# EAGLE library part EA-MS5611 (library SDSURocket-BreakoutBoards)
Embedded Adventures MS5611 Breakout Air Pressure Sensor (Barometer) Layout for the Embedded Adventures MS5611 (MOD-1009v3) Breakout board. The MS5611 air pressure sensor that returns a 24 bit result allowing you to measure the difference in air pressure of 10cm change in altitude. Easily accessable via I2C, and with the new v3 board, SPI protocol. Product ID: MOD-1009 <http://www.embeddedadventures.com/barometric_pressure_sensor_module_mod-1009.html>
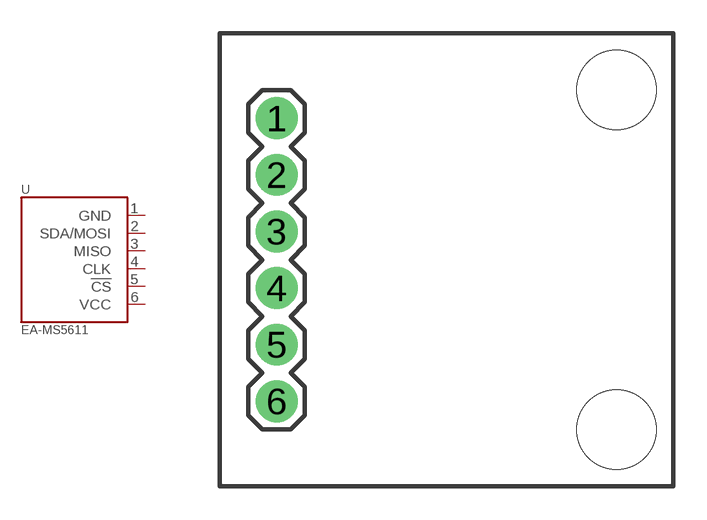
[diagram p6: symbol with the pads of EA-MS5611; footprint EA-MS5611]

Designator prefix -

## EA-MS5611-BREAKOUT  [EA-MS5611]
1  GND  pwr
2  SDA/MOSI
3  MISO  out
4  CLK  in
5  !CS  in
6  VCC  pwr

## Footprint EA-MS5611 (pad centres in mm)
Embedded Adventures MS5611 Breakout Air Pressure Sensor (Barometer) Layout for the Embedded Adventures MS5611 (MOD-1009v3) Breakout board. The MS5611 air pressure sensor that returns a 24 bit result allowing you to measure the difference in air pressure of 10cm change in altitude. Easily accessable via I2C, and with the new v3 board, SPI protocol. Product ID: MOD-1009 <http://www.embeddedadventures.com/barometric_pressure_sensor_module_mod-1009.html>
drill 1.016 pad 1.88: 1 -7.62,6.35; 2 -7.62,3.81; 3 -7.62,1.27; 4 -7.62,-1.27; 5 -7.62,-3.81; 6 -7.62,-6.35
hole 3.556 at 7.62,-7.62
hole 3.556 at 7.62,7.62